# EAGLE library part 10PIN_HEADER_MALE (library NU STEM)
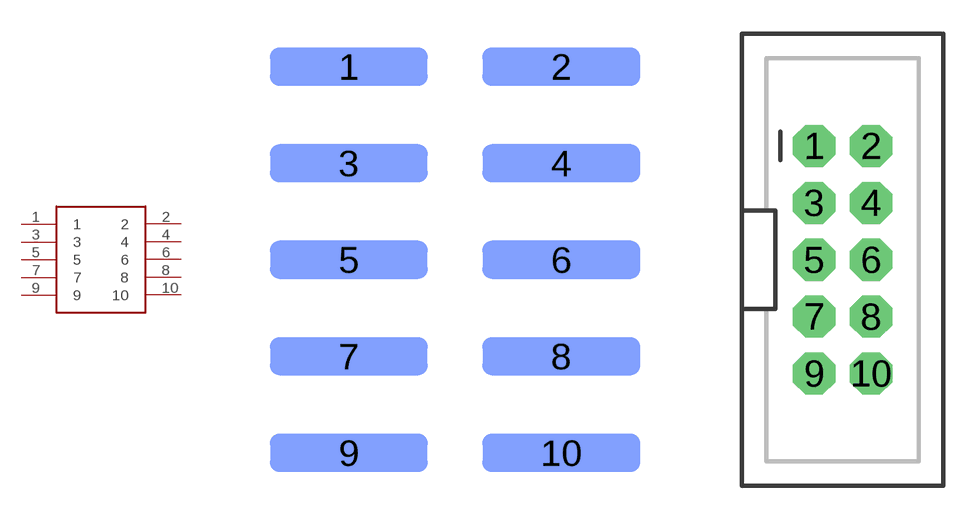
[diagram p4: symbol with the pads of 2X5-SHROUDED_SMD_BOTTOM; footprints 2X5-SHROUDED_SMD_BOTTOM, 2X5-SHROUDED]

Designator prefix -

## 10PIN_HEADER_MALE  [2X5-SHROUDED_SMD_BOTTOM]
1  1
2  2
3  3
4  4
5  5
6  6
7  7
8  8
9  9
10  10

## 10PIN_HEADER_MALETHROUGH-HOLE  [2X5-SHROUDED]
Pads as for 2X5-SHROUDED_SMD_BOTTOM

## Footprint 2X5-SHROUDED_SMD_BOTTOM (pad centres in mm)
smd 4.15 x 1 bottom: 1 -2.794,5.08; 2 2.794,5.08; 3 -2.794,2.54; 4 2.794,2.54; 5 -2.794,0; 6 2.794,0; 7 -2.794,-2.54; 8 2.794,-2.54; 9 -2.794,-5.08; 10 2.794,-5.08

## Footprint 2X5-SHROUDED (pad centres in mm)
drill 1.016 pad 1.88 octagon: 1 -1.27,5.08; 2 1.27,5.08; 3 -1.27,2.54; 4 1.27,2.54; 5 -1.27,0; 6 1.27,0; 7 -1.27,-2.54; 8 1.27,-2.54; 9 -1.27,-5.08; 10 1.27,-5.08